# Altium footprint library flatsat_platform_2.PcbLib: 76 footprints (part 2 of 5)
Each footprint in its own frame and in the unit in brackets; x right, y up, seen from the top. Pads: shape width x height; smd on the part's side, far side on the other; paste and mask are expansions set on the pad; w line width, h text height; cw(c..) or ccw(c..) is an arc to the next point about the centre after c.
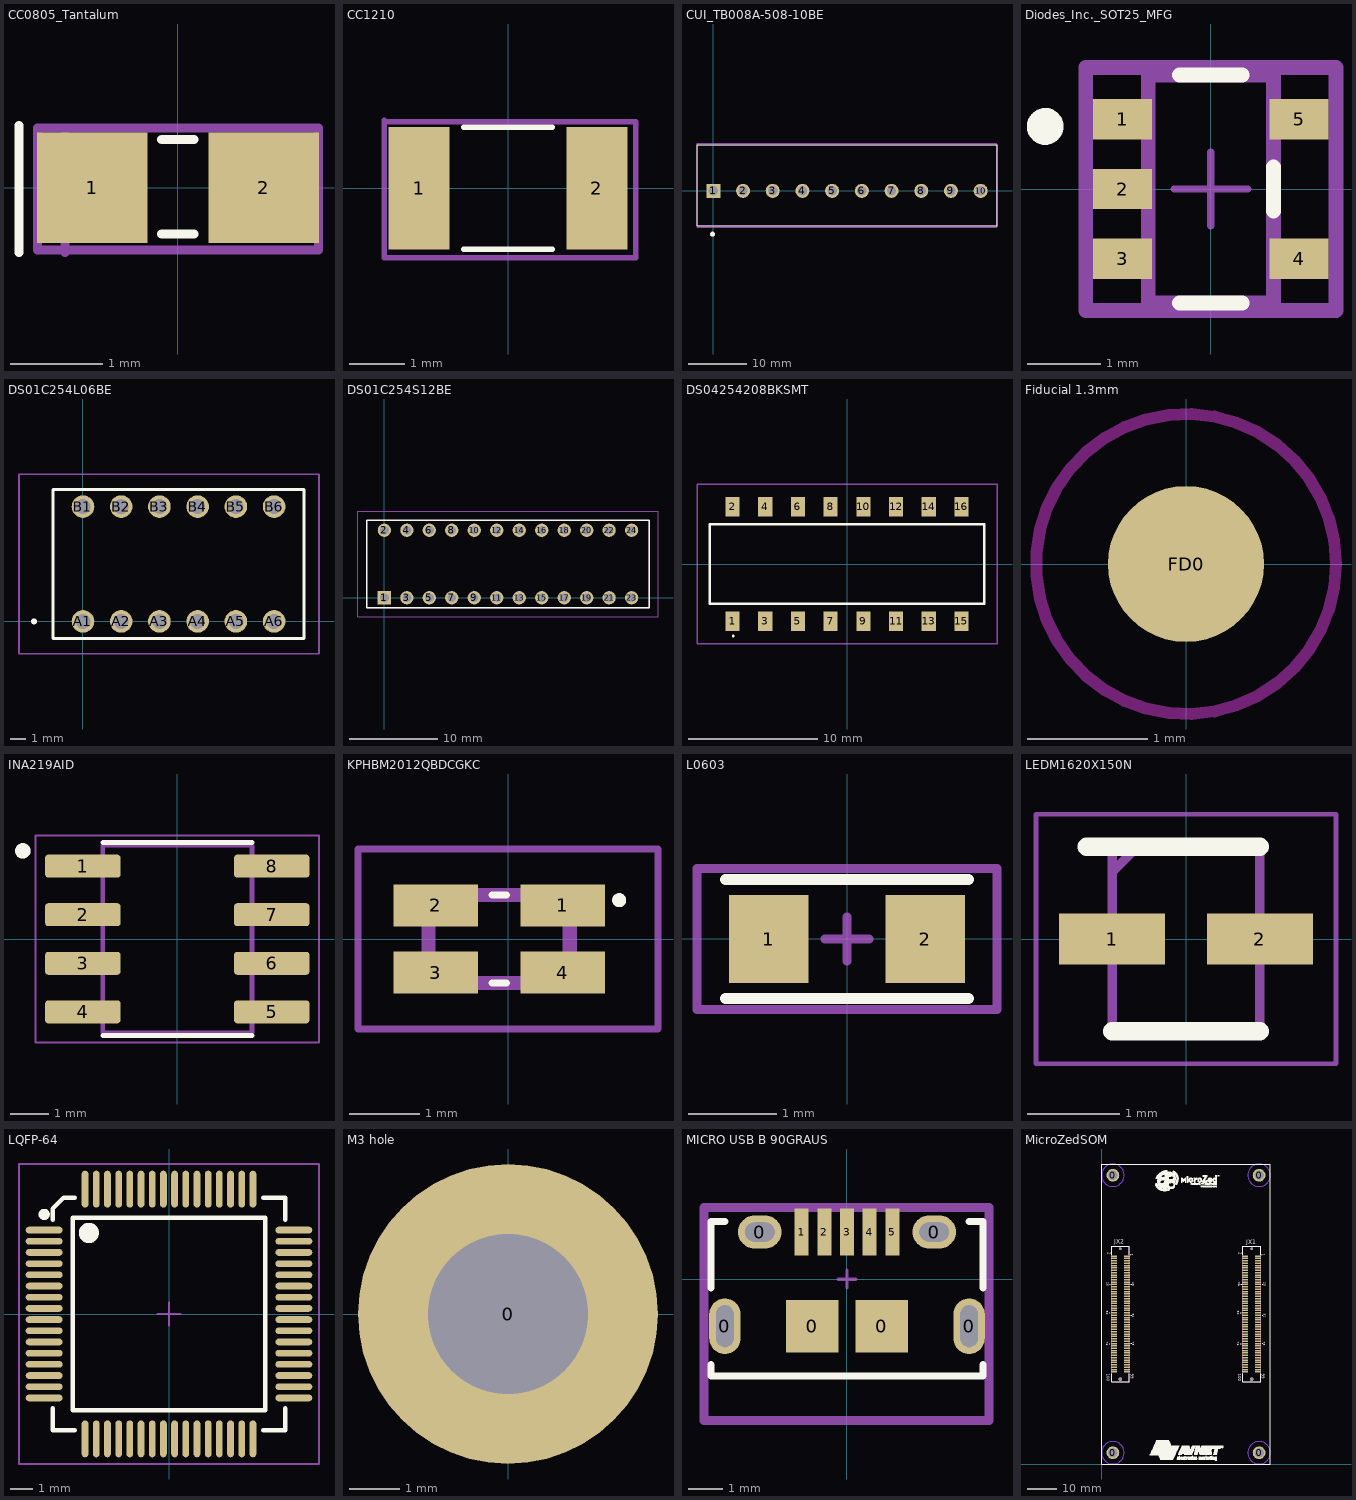
[diagram p1: the footprints below, top view; thin cyan lines are the x and y axes]

## CC0805_Tantalum [mm] "TDK mlccspec_commercial_general_midvoltage_en.pdf"
height 1.25
pads (2):
  rect 1.2x1.2 smd: 1(-0.93,0) 2(0.93,0)
Top Overlay:
  lines w0.1: -1.725,-0.7 -1.725,0.675 ; -0.175,-0.5 0.175,-0.5 ; -0.175,0.525 0.175,0.525
Mechanical 15:
  lines w0.1: -1.225,-0.7 -1.225,0.625 ; -1.525,-0.675 1.525,-0.675 1.525,0.65 -1.525,0.65 -1.525,-0.675
  text ".Designator" at 1.28,0.24 h0.5
3D body "User Library-Tantalum Capacitor Case R.STEP": height 1.35, standoff 0, extent -1.042,-0.585 1.208,0.765

## CC1210 [mm] "TDK mlccspec_commercial_general_midvoltage_en.pdf"
height 2.5
pads (2):
  rect 1.1x2.2 smd: 1(-1.6,0) 2(1.6,0)
Top Overlay:
  lines w0.1: -0.8,-1.1 0.8,-1.1 ; -0.8,1.1 0.8,1.1
Mechanical 15:
  lines w0.1: -2.225,1.225 -2.225,-1.25 2.3,-1.25 2.3,1.2 -2.175,1.2
  text ".Designator" at -1.66,0.01 h0.5
3D body "CC1210(3225M).STEP": height 1.69, standoff -0.01, extent -2,-1.244 2,1.245

## CUI_TB008A-508-10BE [mm]
pads (10):
  rect 2.4x2.4 hole 1.6: 1(0,0)
  round 2.4 hole 1.6: 2(5.08,0) 3(10.16,0) 4(15.24,0) 5(20.32,0) 6(25.4,0) 7(30.48,0) 8(35.56,0) 9(40.64,0) 10(45.72,0)
Top Overlay:
  circle w0.61: c-0.136,-7.412 r0.11
  lines w0.127: -2.794,-6 48.514,-6 48.514,7.874 -2.794,7.874 -2.794,-6
Mechanical 13:
  lines w0.127: -2.794,-6 48.514,-6 48.514,7.874 -2.794,7.874 -2.794,-6
Mechanical 15:
  lines w0.05: -2.79,-6.25 -2.79,8.14 48.51,8.14 48.51,-6.25 -2.79,-6.25
3D body "CUI_DEVICES_TB008A-508-10BE.step": height 15.83, standoff -3.49, extent -2.79,-6.015 48.51,7.874

## Diodes_Inc._SOT25_MFG [mm]
pads (5):
  rect 0.8x0.55 smd paste+0 mask+0: 1(-1.2,0.95) 2(-1.2,0) 3(-1.2,-0.95) 4(1.2,-0.95) 5(1.2,0.95)
Top Overlay:
  circle w0.25: c-2.25,0.85 r0.125
  lines w0.2: -0.425,-1.55 0.425,-1.55 ; -0.425,1.55 0.425,1.55 ; 0.85,-0.3 0.85,0.3
Mechanical 10:
  lines w0.2: -1.7,-1.65 -1.7,1.65 1.7,1.65 1.7,-1.65 -1.7,-1.65
  text ".Designator" at 0,0 h1
Mechanical 12:
  lines w0.2: -0.85,-1.55 -0.85,1.55 0.85,1.55 0.85,-1.55 -0.85,-1.55
Mechanical 15:
  lines w0.1: -0.5,0 0.5,0 ; 0,-0.5 0,0.5
  lines w0.2: -1.7,-1.65 -1.7,1.65 1.7,1.65 1.7,-1.65 -1.7,-1.65
3D body "IC_Diodes_Inc._AP331AWG-7_eec.STEP": height 0.25, standoff 0, extent -1.7,-1.65 1.7,1.65

## DS01C254L06BE [mm]
pads (12):
  round 1.5 hole 1: A1(0,0) A2(2.54,0) A3(5.08,0) A4(7.62,0) A5(10.16,0) A6(12.7,0) B1(0,7.62) B2(2.54,7.62) B3(5.08,7.62) B4(7.62,7.62) B5(10.16,7.62) B6(12.7,7.62)
Top Overlay:
  lines w0.2: -3.35,0 ccw(c-3.25,0) -3.15,0 ccw(c-3.25,0) -3.35,0 ; -1.98,-1.14 -1.98,8.76 14.68,8.76 14.68,-1.14 -1.98,-1.14
Mechanical 13:
  lines w0.1: -1.98,-1.14 -1.98,8.76 14.68,8.76 14.68,-1.14 -1.98,-1.14
Mechanical 15:
  lines w0.1: -4.25,-2.14 -4.25,9.76 15.68,9.76 15.68,-2.14 -4.25,-2.14
3D body "DS01C-254-L-06BE.stp": height 10.36, standoff 0, extent -1.945,-1.14 14.715,8.76

## DS01C254S12BE [mm]
pads (24):
  rect 1.5x1.5 hole 1: 1(0,0)
  round 1.5 hole 1: 2(0,7.62) 3(2.54,0) 4(2.54,7.62) 5(5.08,0) 6(5.08,7.62) 7(7.62,0) 8(7.62,7.62) 9(10.16,0) 10(10.16,7.62) 11(12.7,0) 12(12.7,7.62) 13(15.24,0) 14(15.24,7.62) 15(17.78,0) 16(17.78,7.62) 17(20.32,0) 18(20.32,7.62) 19(22.86,0) 20(22.86,7.62) 21(25.4,0) 22(25.4,7.62) 23(27.94,0) 24(27.94,7.62)
Top Overlay:
  lines w0.2: -2,8.76 29.92,8.76 29.92,-1.14 -2,-1.14 -1.98,8.76
Mechanical 13:
  lines w0.1: -1.98,-1.14 -1.98,8.76 29.92,8.76 29.92,-1.14 -1.98,-1.14
Mechanical 15:
  lines w0.1: -2.98,-2.14 -2.98,9.76 30.92,9.76 30.92,-2.14 -2.98,-2.14
3D body "DS01C-254-S-12BE.stp": height 7.1, standoff -5, extent -1.98,-1.14 29.92,8.76

## DS04254208BKSMT [mm]
pads (16):
  rect 1.1x1.5 smd: 1(-8.89,-4.45) 2(-8.89,4.45) 3(-6.35,-4.45) 4(-6.35,4.45) 5(-3.81,-4.45) 6(-3.81,4.45) 7(-1.27,-4.45) 8(-1.27,4.45) 9(1.27,-4.45) 10(1.27,4.45) 11(3.81,-4.45) 12(3.81,4.45) 13(6.35,-4.45) 14(6.35,4.45) 15(8.89,-4.45) 16(8.89,4.45)
Top Overlay:
  lines w0.1: -8.9,-5.6 ccw(c-8.85,-5.6) -8.8,-5.6 ccw(c-8.85,-5.6) -8.9,-5.6
  lines w0.2: -10.66,-3.1 -10.66,3.1 10.66,3.1 10.66,-3.1 -10.66,-3.1
Mechanical 13:
  lines w0.1: -10.66,-3.1 -10.66,3.1 10.66,3.1 10.66,-3.1 -10.66,-3.1
Mechanical 15:
  lines w0.1: -11.66,-6.2 -11.66,6.2 11.66,6.2 11.66,-6.2 -11.66,-6.2
3D body "DS04-254-2-08BK-SMT.stp": height 4.18, standoff 0.18, extent -10.418,-5.257 10.903,4.643

## Fiducial 1.3mm [mm]
pads (1):
  round 1.3 smd mask+0.6: FD0(0,0)
Top Layer keep-out:
  circle w0.1: c0,0 r1.25

## INA219AID [mm]
pads (8):
  rrect25% 1.97x0.6 smd: 1(-2.47,1.905) 2(-2.47,0.635) 3(-2.47,-0.635) 4(-2.47,-1.905) 5(2.47,-1.905) 6(2.47,-0.635) 7(2.47,0.635) 8(2.47,1.905)
Top Overlay:
  circle w0.2: c-4.04,2.305 r0.1
  lines w0.127: -1.95,-2.525 1.95,-2.525 ; -1.95,2.525 1.95,2.525
Mechanical 13:
  circle w0.2: c-4.04,2.305 r0.1
  lines w0.127: -1.95,-2.452 -1.95,2.452 1.95,2.452 1.95,-2.452 -1.95,-2.452
Mechanical 15:
  lines w0.05: -3.705,-2.702 -3.705,2.702 3.705,2.702 3.705,-2.702 -3.705,-2.702
3D body "step_temp.STEP": height 1.75, standoff 0, extent -2.998,-2.451 2.997,2.451

## KPHBM2012QBDCGKC [mm]
pads (4):
  rect 1.2x0.6 smd: 1(0.775,0.475) 2(-1.025,0.475) 3(-1.025,-0.475) 4(0.775,-0.475)
Top Overlay:
  lines w0.1: -0.225,-0.625 -0.025,-0.625 ; -0.225,0.625 -0.025,0.625 ; 1.575,0.5 cw(c1.575,0.55) 1.575,0.6 cw(c1.575,0.55) 1.575,0.5
Mechanical 13:
  lines w0.2: -1.125,-0.625 -1.125,0.625 0.875,0.625 0.875,-0.625 -1.125,-0.625
Mechanical 15:
  lines w0.1: -2.125,-1.275 -2.125,1.275 2.125,1.275 2.125,-1.275 -2.125,-1.275
3D body "APHBM2012LSURKCGKC.stp": height 0.45, standoff 0, extent -1,-0.625 1,0.625

## L0603 [mm]
pads (2):
  rect 0.9x1 smd: 1(-0.889,0) 2(0.889,0)
Top Overlay:
  lines w0.127: -1.375,-0.675 1.375,-0.675 ; -1.375,0.675 1.375,0.675
Top Assembly:
  lines w0.1: -0.25,0 0.25,0 ; 0,-0.25 0,0.25 ; -1.7,-0.8 1.7,-0.8 1.7,0.8 -1.7,0.8 -1.7,-0.8
  text "'.Designator'" at -1.25,-0.5 h0.8
3D body "User Library-Chip Inductor (1).step": height 0.95, standoff 0, extent -0.8,-0.4 0.8,0.4

## LEDM1620X150N [mm]
pads (2):
  rect 1.15x0.55 smd: 1(-0.8,0) 2(0.8,0)
Top Overlay:
  lines w0.2: -1.075,1 0.8,1 ; -0.8,-1 0.8,-1
Mechanical 13:
  lines w0.1: -0.8,0.725 -0.525,1 ; -0.8,-1 -0.8,1 0.8,1 0.8,-1 -0.8,-1
Mechanical 15:
  lines w0.05: -1.625,-1.35 -1.625,1.35 1.625,1.35 1.625,-1.35 -1.625,-1.35
3D body "SML-D12P8WT86.stp": height 0.55, standoff 0, extent -0.8,-0.4 0.8,0.4

## LQFP-64 [mm] "64-Pin LQFP 0.5 mm Pitch"
height 1.6
pads (64):
  oval 1.65x0.3 smd: 1(-5.575,3.75) 2(-5.575,3.25) 3(-5.575,2.75) 4(-5.575,2.25) 5(-5.575,1.75) 6(-5.575,1.25) 7(-5.575,0.75) 8(-5.575,0.25) 9(-5.575,-0.25) 10(-5.575,-0.75) 11(-5.575,-1.25) 12(-5.575,-1.75) 13(-5.575,-2.25) 14(-5.575,-2.75) 15(-5.575,-3.25) 16(-5.575,-3.75) 33(5.575,-3.75) 34(5.575,-3.25) 35(5.575,-2.75) 36(5.575,-2.25) 37(5.575,-1.75) 38(5.575,-1.25) 39(5.575,-0.75) 40(5.575,-0.25) 41(5.575,0.25) 42(5.575,0.75) 43(5.575,1.25) 44(5.575,1.75) 45(5.575,2.25) 46(5.575,2.75) 47(5.575,3.25) 48(5.575,3.75)
  oval 0.3x1.65 smd: 17(-3.75,-5.575) 18(-3.25,-5.575) 19(-2.75,-5.575) 20(-2.25,-5.575) 21(-1.75,-5.575) 22(-1.25,-5.575) 23(-0.75,-5.575) 24(-0.25,-5.575) 25(0.25,-5.575) 26(0.75,-5.575) 27(1.25,-5.575) 28(1.75,-5.575) 29(2.25,-5.575) 30(2.75,-5.575) 31(3.25,-5.575) 32(3.75,-5.575) 49(3.75,5.575) 50(3.25,5.575) 51(2.75,5.575) 52(2.25,5.575) 53(1.75,5.575) 54(1.25,5.575) 55(0.75,5.575) 56(0.25,5.575) 57(-0.25,5.575) 58(-0.75,5.575) 59(-1.25,5.575) 60(-1.75,5.575) 61(-2.25,5.575) 62(-2.75,5.575) 63(-3.25,5.575) 64(-3.75,5.575)
Top Overlay:
  circle w0.6: c-3.58,3.62 r0.15
  circle w0.25: c-5.575,4.45 r0.125
  lines w0.2: -5.2,-4.2 -5.2,-5.2 ; -5.2,4.2 -5.2,4.7 -4.7,5.2 -4.2,5.2 ; -4.2,-5.2 -5.2,-5.2 ; 4.2,-5.2 5.201,-5.2 5.2,-5.201 5.2,-4.2 ; 4.2,5.2 5.2,5.2 5.2,5.2 5.2,4.2 ; -5.2,-5.2 -5.2,-5.2 ; -4.3,-4.3 4.3,-4.3 4.3,4.3 -4.3,4.3 -4.3,-4.3
Top Assembly:
  lines w0.1: -0.5,0 0.5,0 ; 0,-0.5 0,0.5 ; -6.7,-6.7 6.7,-6.7 6.7,6.7 -6.7,6.7 -6.7,-6.7
  text "'.Designator'" at -4,3 h1.2
3D body "User Library-LQFP64_Grid_0_5.STEP": height 1.6, standoff 0, extent -6,-6 6,6

## M3 hole [mm]
pads (1):
  round 6 hole 3.2: 0(0,0)

## MICRO USB B 90GRAUS [mm]
pads (11):
  oval 0.9x1.6 hole 0.5 slot 1.2 at 90 deg: 0(-3.5,-1.35) 0(3.5,-1.35)
  oval 1.25x0.95 hole 0.55 slot 0.85 at 0 deg: 0(-2.5,1.35) 0(2.5,1.35)
  rect 1.5x1.5 smd: 0(-1,-1.35) 0(1,-1.35)
  rect 0.4x1.35 smd: 1(-1.3,1.35) 2(-0.65,1.35) 3(0,1.35) 4(0.65,1.35) 5(1.3,1.35)
Top Overlay:
  lines w0.2: -3.9,-2.45 -3.9,-2.775 3.9,-2.775 3.9,-2.45 ; -3.9,-0.25 -3.9,1.65 -3.5,1.65 ; 3.5,1.65 3.9,1.65 3.9,-0.25
Top Assembly:
  lines w0.1: -0.25,0 0.25,0 ; 0,-0.25 0,0.25
  lines w0.254: -4.1,-4.05 -4.1,2.05 4.075,2.05 4.075,-4.05 -4.1,-4.05
  text "'.Designator'" at -3.4,-2.7 h1.2
3D body "User Library-10118194.STEP": height 2.73, standoff -0.55, extent -4.025,-4.03 4.025,1.55

## MicroZedSOM [mil] "MicroZed SOM Footprint"
pads (208):
  round 170 hole 125: 0(150,150) 0(150,3850) 0(2100,150) 0(2100,3850)
  round 45.98 hole 47.99 unplated: 0(250.5,1130) 0(2000.5,1130)
  round 30 hole 32.01 unplated: 0(250.5,2870) 0(2000.5,2870)
  rect 80x20 smd: JX1-1(2087.11,2771.65) JX1-2(1913.89,2771.65) JX1-3(2087.11,2740.16) JX1-4(1913.89,2740.16) JX1-5(2087.11,2708.66) JX1-6(1913.89,2708.66) JX1-7(2087.11,2677.17) JX1-8(1913.89,2677.17) JX1-9(2087.11,2645.67) JX1-10(1913.89,2645.67) JX1-11(2087.11,2614.17) JX1-12(1913.89,2614.17) JX1-13(2087.11,2582.68) JX1-14(1913.89,2582.68) JX1-15(2087.11,2551.18) JX1-16(1913.89,2551.18) JX1-17(2087.11,2519.68) JX1-18(1913.89,2519.69) JX1-19(2087.11,2488.19) JX1-20(1913.89,2488.19) JX1-21(2087.11,2456.69) JX1-22(1913.89,2456.69) JX1-23(2087.11,2425.2) JX1-24(1913.89,2425.2) JX1-25(2087.11,2393.7) JX1-26(1913.89,2393.7) JX1-27(2087.11,2362.2) JX1-28(1913.89,2362.21) JX1-29(2087.11,2330.71) JX1-30(1913.89,2330.71) JX1-31(2087.11,2299.21) JX1-32(1913.89,2299.21) JX1-33(2087.11,2267.72) JX1-34(1913.89,2267.72) JX1-35(2087.11,2236.22) JX1-36(1913.89,2236.22) JX1-37(2087.11,2204.72) JX1-38(1913.89,2204.73) JX1-39(2087.11,2173.23) JX1-40(1913.89,2173.23) JX1-41(2087.11,2141.73) JX1-42(1913.89,2141.73) JX1-43(2087.11,2110.24) JX1-44(1913.89,2110.24) JX1-45(2087.11,2078.74) JX1-46(1913.89,2078.74) JX1-47(2087.11,2047.24) JX1-48(1913.89,2047.25) JX1-49(2087.11,2015.75) JX1-50(1913.89,2015.75) JX1-51(2087.11,1984.25) JX1-52(1913.89,1984.25) JX1-53(2087.11,1952.76) JX1-54(1913.89,1952.76) JX1-55(2087.11,1921.26) JX1-56(1913.89,1921.26) JX1-57(2087.11,1889.76) JX1-58(1913.89,1889.77) JX1-59(2087.11,1858.27) JX1-60(1913.89,1858.27) JX1-61(2087.11,1826.77) JX1-62(1913.89,1826.77) JX1-63(2087.11,1795.28) JX1-64(1913.89,1795.28) JX1-65(2087.11,1763.78) JX1-66(1913.89,1763.78) JX1-67(2087.11,1732.28) JX1-68(1913.89,1732.29) JX1-69(2087.11,1700.79) JX1-70(1913.89,1700.79) JX1-71(2087.11,1669.29) JX1-72(1913.89,1669.29) JX1-73(2087.11,1637.8) JX1-74(1913.89,1637.8) JX1-75(2087.11,1606.3) JX1-76(1913.89,1606.3) JX1-77(2087.11,1574.8) JX1-78(1913.89,1574.81) JX1-79(2087.11,1543.31) JX1-80(1913.89,1543.31) JX1-81(2087.11,1511.81) JX1-82(1913.89,1511.81) JX1-83(2087.11,1480.31) JX1-84(1913.89,1480.32) JX1-85(2087.11,1448.82) JX1-86(1913.89,1448.82) JX1-87(2087.11,1417.32) JX1-88(1913.89,1417.33) JX1-89(2087.11,1385.83) JX1-90(1913.89,1385.83) JX1-91(2087.11,1354.33) JX1-92(1913.89,1354.33) JX1-93(2087.11,1322.83) JX1-94(1913.89,1322.84) JX1-95(2087.11,1291.34) JX1-96(1913.89,1291.34) JX1-97(2087.11,1259.84) JX1-98(1913.89,1259.85) JX1-99(2087.11,1228.35) JX1-100(1913.89,1228.35) JX2-1(337.11,2771.65) JX2-2(163.89,2771.65) JX2-3(337.11,2740.16) JX2-4(163.89,2740.16) JX2-5(337.11,2708.66) JX2-6(163.89,2708.66) JX2-7(337.11,2677.17) JX2-8(163.89,2677.17) JX2-9(337.11,2645.67) JX2-10(163.89,2645.67) JX2-11(337.11,2614.17) JX2-12(163.89,2614.17) JX2-13(337.11,2582.68) JX2-14(163.89,2582.68) JX2-15(337.11,2551.18) JX2-16(163.89,2551.18) JX2-17(337.11,2519.68) JX2-18(163.89,2519.69) JX2-19(337.11,2488.19) JX2-20(163.89,2488.19) JX2-21(337.11,2456.69) JX2-22(163.89,2456.69) JX2-23(337.11,2425.2) JX2-24(163.89,2425.2) JX2-25(337.11,2393.7) JX2-26(163.89,2393.7) JX2-27(337.11,2362.2) JX2-28(163.89,2362.21) JX2-29(337.11,2330.71) JX2-30(163.89,2330.71) JX2-31(337.11,2299.21) JX2-32(163.89,2299.21) JX2-33(337.11,2267.72) JX2-34(163.89,2267.72) JX2-35(337.11,2236.22) JX2-36(163.89,2236.22) JX2-37(337.11,2204.72) JX2-38(163.89,2204.73) JX2-39(337.11,2173.23) JX2-40(163.89,2173.23) JX2-41(337.11,2141.73) JX2-42(163.89,2141.73) JX2-43(337.11,2110.24) JX2-44(163.89,2110.24) JX2-45(337.11,2078.74) JX2-46(163.89,2078.74) JX2-47(337.11,2047.24) JX2-48(163.89,2047.25) JX2-49(337.11,2015.75) JX2-50(163.89,2015.75) JX2-51(337.11,1984.25) JX2-52(163.89,1984.25) JX2-53(337.11,1952.76) JX2-54(163.89,1952.76) JX2-55(337.11,1921.26) JX2-56(163.89,1921.26) JX2-57(337.11,1889.76) JX2-58(163.89,1889.77) JX2-59(337.11,1858.27) JX2-60(163.89,1858.27) JX2-61(337.11,1826.77) JX2-62(163.89,1826.77) JX2-63(337.11,1795.28) JX2-64(163.89,1795.28) JX2-65(337.11,1763.78) JX2-66(163.89,1763.78) JX2-67(337.11,1732.28) JX2-68(163.89,1732.29) JX2-69(337.11,1700.79) JX2-70(163.89,1700.79) JX2-71(337.11,1669.29) JX2-72(163.89,1669.29) JX2-73(337.11,1637.8) JX2-74(163.89,1637.8) JX2-75(337.11,1606.3) JX2-76(163.89,1606.3) JX2-77(337.11,1574.8) JX2-78(163.89,1574.81) JX2-79(337.11,1543.31) JX2-80(163.89,1543.31) JX2-81(337.11,1511.81) JX2-82(163.89,1511.81) JX2-83(337.11,1480.31) JX2-84(163.89,1480.32) JX2-85(337.11,1448.82) JX2-86(163.89,1448.82) JX2-87(337.11,1417.32) JX2-88(163.89,1417.33) JX2-89(337.11,1385.83) JX2-90(163.89,1385.83) JX2-91(337.11,1354.33) JX2-92(163.89,1354.33) JX2-93(337.11,1322.83) JX2-94(163.89,1322.84) JX2-95(337.11,1291.34) JX2-96(163.89,1291.34) JX2-97(337.11,1259.84) JX2-98(163.89,1259.85) JX2-99(337.11,1228.35) JX2-100(163.89,1228.35)
Top Layer keep-out:
  circle w4: c150,150 r150
  circle w4: c2100,3850 r150
  circle w4: c150,3850 r150
  circle w4: c2100,150 r150
Bottom Layer keep-out:
  circle w4: c150,150 r150
  circle w4: c2100,3850 r150
  circle w4: c150,3850 r150
  circle w4: c2100,150 r150
Top Overlay:
  drawing of 6871 lines, arcs and shapes, not listed
  text "JX1" at 1927,2933 h60
  text "JX2" at 170,2937 h60
  text "50" at 61.49,2041.42 h30
  text "76" at 61.49,1631.42 h30
  text "75" at 406.49,1631.42 h30
  text "51" at 411.49,2006.42 h30
  text "26" at 71.49,2421.42 h30
  text "25" at 411.49,2421.42 h30
  text "1" at 383.51,2802 h40
  text "2" at 80.51,2821 h40
  text "99" at 386.49,1201.42 h40
  text "100" at 71.49,1201.42 h40
  text "100" at 1821.49,1201.42 h40
  text "99" at 2136.49,1201.42 h40
  text "2" at 1830.51,2821 h40
  text "1" at 2133.51,2802 h40
  text "25" at 2161.49,2421.42 h30
  text "26" at 1821.49,2421.42 h30
  text "51" at 2161.49,2006.42 h30
  text "75" at 2156.49,1631.42 h30
  text "76" at 1811.49,1631.42 h30
  text "50" at 1811.49,2041.42 h30
Mechanical 13:
  lines w6: 132.39,1098.42 132.39,2901.57 368.61,2901.57 368.61,1098.42 132.39,1098.42 ; 1882.39,1098.42 2118.61,1098.42 2118.61,2901.57 1882.39,2901.57 1882.39,1098.42
3D body: height 1, standoff 0, extent -0.57,0.22 149.43,300.22
3D body: height 1, standoff 0, extent 149.43,0.22 299.43,300.22
3D body: height 1, standoff 0, extent 1949.43,3700.22 2099.43,4000.22
3D body: height 1, standoff 0, extent 2099.43,3700.22 2249.43,4000.22
3D body: height 1, standoff 0, extent 0.43,3700.22 150.43,4000.22
3D body: height 1, standoff 0, extent 150.43,3700.22 300.43,4000.22
3D body: height 1, standoff 0, extent 1950.43,0.22 2100.43,300.22
3D body: height 1, standoff 0, extent 2100.43,0.22 2250.43,300.22
3D body "s61083-101x0xxx.stp": height 183.07, standoff -27.56, extent 131.9,1099.43 368.12,2902.57
3D body "s61083-101x0xxx.stp": height 185.64, standoff -24.99, extent 1882,1097.85 2118.22,2901